# EAGLE library part STM32F103CB (library SPEAR)
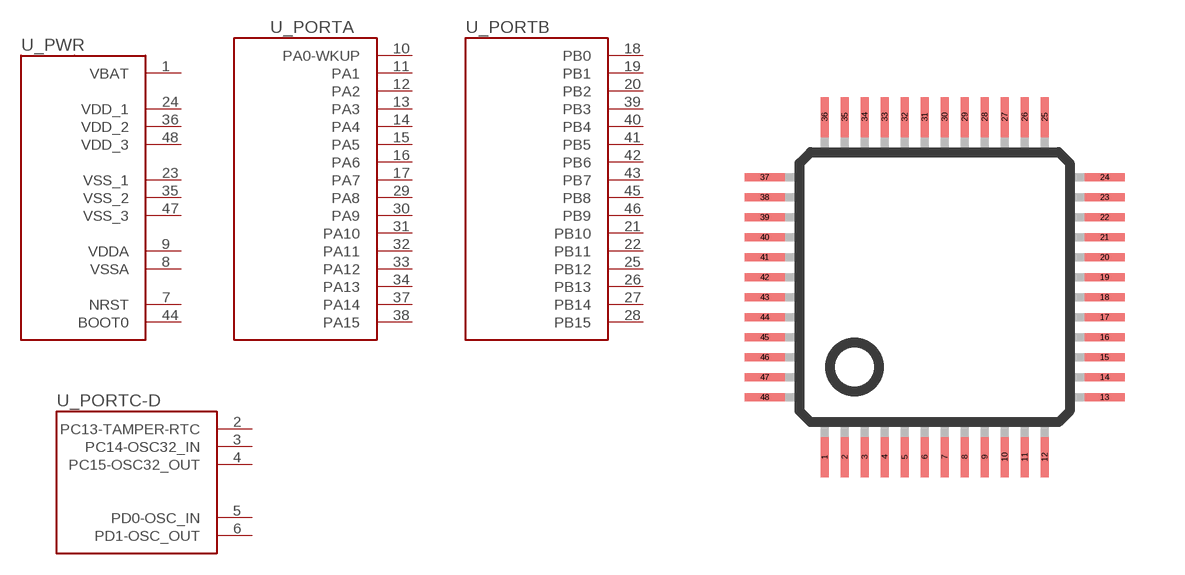
[diagram p2: symbol with the pads of LQFP48; footprint LQFP48]

Designator prefix U; gates _PWR=STM32F103CX_PWR _PORTA=STM32F103CS_PORTA _PORTB=STM32F103CX_PORTB _PORTC-D=STM32F103CX_PORTC-D

## STM32F103CB  [LQFP48]
1  _PWR:VBAT
2  _PORTC-D:PC13-TAMPER-RTC
3  _PORTC-D:PC14-OSC32_IN
4  _PORTC-D:PC15-OSC32_OUT
5  _PORTC-D:PD0-OSC_IN
6  _PORTC-D:PD1-OSC_OUT
7  _PWR:NRST
8  _PWR:VSSA
9  _PWR:VDDA
10  _PORTA:PA0-WKUP
11  _PORTA:PA1
12  _PORTA:PA2
13  _PORTA:PA3
14  _PORTA:PA4
15  _PORTA:PA5
16  _PORTA:PA6
17  _PORTA:PA7
18  _PORTB:PB0
19  _PORTB:PB1
20  _PORTB:PB2
21  _PORTB:PB10
22  _PORTB:PB11
23  _PWR:VSS_1
24  _PWR:VDD_1
25  _PORTB:PB12
26  _PORTB:PB13
27  _PORTB:PB14
28  _PORTB:PB15
29  _PORTA:PA8
30  _PORTA:PA9
31  _PORTA:PA10
32  _PORTA:PA11
33  _PORTA:PA12
34  _PORTA:PA13
35  _PWR:VSS_2
36  _PWR:VDD_2
37  _PORTA:PA14
38  _PORTA:PA15
39  _PORTB:PB3
40  _PORTB:PB4
41  _PORTB:PB5
42  _PORTB:PB6
43  _PORTB:PB7
44  _PWR:BOOT0
45  _PORTB:PB8
46  _PORTB:PB9
47  _PWR:VSS_3
48  _PWR:VDD_3

## Footprint LQFP48 (pad centres in mm)
48-pin plastic LQFP (FPT-48P-M26) www.fma.fujitsu.com/pdf/e713717.pdf
smd 0.2 x 1: 1 -2.75,-4.25; 2 -2.25,-4.25; 3 -1.75,-4.25; 4 -1.25,-4.25; 5 -0.75,-4.25; 6 -0.25,-4.25; 7 0.25,-4.25; 8 0.75,-4.25; 9 1.25,-4.25; 10 1.75,-4.25; 11 2.25,-4.25; 12 2.75,-4.25; 25 2.75,4.25; 26 2.25,4.25; 27 1.75,4.25; 28 1.25,4.25; 29 0.75,4.25; 30 0.25,4.25; 31 -0.25,4.25; 32 -0.75,4.25; 33 -1.25,4.25; 34 -1.75,4.25; 35 -2.25,4.25; 36 -2.75,4.25
smd 1 x 0.2: 13 4.25,-2.75; 14 4.25,-2.25; 15 4.25,-1.75; 16 4.25,-1.25; 17 4.25,-0.75; 18 4.25,-0.25; 19 4.25,0.25; 20 4.25,0.75; 21 4.25,1.25; 22 4.25,1.75; 23 4.25,2.25; 24 4.25,2.75; 37 -4.25,2.75; 38 -4.25,2.25; 39 -4.25,1.75; 40 -4.25,1.25; 41 -4.25,0.75; 42 -4.25,0.25; 43 -4.25,-0.25; 44 -4.25,-0.75; 45 -4.25,-1.25; 46 -4.25,-1.75; 47 -4.25,-2.25; 48 -4.25,-2.75